# Altium schematic symbol library TESTING_POINT.SchLib: 1 symbol
Pins are listed as number, name and electrical type; pins without a type are passive.

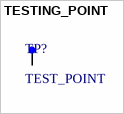
[diagram p0: symbol TESTING_POINT]

## TESTING_POINT
designator TP?, comment TEST_POINT
footprint TEST_POINT
pins: 1